# Altium footprint library STM32L051K8T6.PcbLib: 3 footprints
Each footprint in its own frame and in the unit in brackets; x right, y up, seen from the top. Pads: shape width x height; smd on the part's side, far side on the other; paste and mask are expansions set on the pad; w line width, h text height; cw(c..) or ccw(c..) is an arc to the next point about the centre after c.
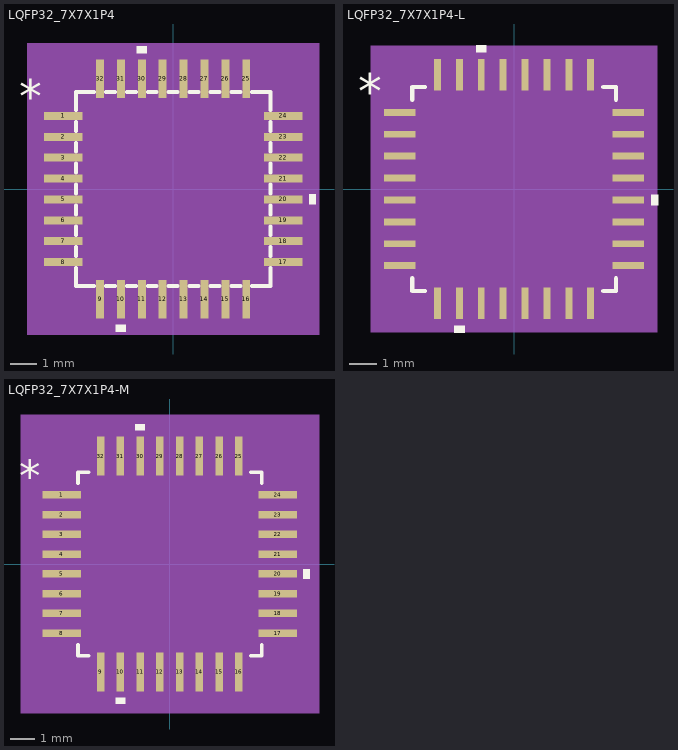
[diagram p0: the footprints below, top view; thin cyan lines are the x and y axes]

## LQFP32_7X7X1P4 [mil]
pads (32):
  rect 58x12 smd: 1(-166,110.24) 2(-166,78.74) 3(-166,47.24) 4(-166,15.75) 5(-166,-15.75) 6(-166,-47.24) 7(-166,-78.74) 8(-166,-110.24) 17(166,-110.24) 18(166,-78.74) 19(166,-47.24) 20(166,-15.75) 21(166,15.75) 22(166,47.24) 23(166,78.74) 24(166,110.24)
  rect 12x58 smd: 9(-110.24,-166) 10(-78.74,-166) 11(-47.24,-166) 12(-15.75,-166) 13(15.75,-166) 14(47.24,-166) 15(78.74,-166) 16(110.24,-166) 25(110.24,166) 26(78.74,166) 27(47.24,166) 28(15.75,166) 29(-15.75,166) 30(-47.24,166) 31(-78.74,166) 32(-110.24,166)
Top Overlay:
  region: -71.24,-205 -86.24,-205 -86.24,-215 -71.24,-215
  region: 205,-8.25 215,-8.25 215,-23.25 205,-23.25
  region: -39.74,205 -54.74,205 -54.74,215 -39.74,215
  lines w6: -146.5,-119.24 -146.5,-146.5 -119.24,-146.5 ; -146.5,-101.24 -146.5,-87.74 ; -146.5,-69.74 -146.5,-56.24 ; -146.5,-38.24 -146.5,-24.75 ; -146.5,-6.75 -146.5,6.75 ; -146.5,24.75 -146.5,38.24 ; -146.5,56.24 -146.5,69.74 ; -146.5,87.74 -146.5,101.24 ; -146.5,119.24 -146.5,146.5 -119.24,146.5 ; -101.24,-146.5 -87.74,-146.5 ; -101.24,146.5 -87.74,146.5 ; -69.74,-146.5 -56.24,-146.5 ; -69.74,146.5 -56.24,146.5 ; -38.24,-146.5 -24.75,-146.5 ; -38.24,146.5 -24.75,146.5 ; -6.75,-146.5 6.75,-146.5 ; -6.75,146.5 6.75,146.5 ; 24.75,-146.5 38.24,-146.5 ; 24.75,146.5 38.24,146.5 ; 56.24,-146.5 69.74,-146.5 ; 56.24,146.5 69.74,146.5 ; 87.74,-146.5 101.24,-146.5 ; 87.74,146.5 101.24,146.5 ; 119.24,-146.5 146.5,-146.5 146.5,-119.24 ; 119.24,146.5 146.5,146.5 146.5,119.24 ; 146.5,-101.24 146.5,-87.74 ; 146.5,-69.74 146.5,-56.24 ; 146.5,-38.24 146.5,-24.75 ; 146.5,-6.75 146.5,6.75 ; 146.5,24.75 146.5,38.24 ; 146.5,56.24 146.5,69.74 ; 146.5,87.74 146.5,101.24
  text "*" at -232.5,115.98 h50
Mechanical 5:
  region: 220,-220 -220,-220 -220,220 220,220
Mechanical 13:
  lines w1: -141.5,91.5 -91.5,141.5 ; -141.5,-141.5 141.5,-141.5 ; -141.5,-141.5 -141.5,141.5 ; -141.5,-141.5 -141.5,-141.5 ; -141.5,141.5 141.5,141.5 ; -141.5,141.5 -141.5,141.5 ; 141.5,-141.5 141.5,-141.5 ; 141.5,-141.5 141.5,141.5 ; 141.5,141.5 141.5,141.5 ; -181,-115.24 -181,-105.24 -141.5,-105.24 -141.5,-115.24 -181,-115.24 ; -181,-83.74 -181,-73.74 -141.5,-73.74 -141.5,-83.74 -181,-83.74 ; -181,-52.24 -181,-42.24 -141.5,-42.24 -141.5,-52.24 -181,-52.24 ; -181,-20.75 -181,-10.75 -141.5,-10.75 -141.5,-20.75 -181,-20.75 ; -181,10.75 -181,20.75 -141.5,20.75 -141.5,10.75 -181,10.75 ; -181,42.24 -181,52.24 -141.5,52.24 -141.5,42.24 -181,42.24 ; -181,73.74 -181,83.74 -141.5,83.74 -141.5,73.74 -181,73.74 ; -181,105.24 -181,115.24 -141.5,115.24 -141.5,105.24 -181,105.24 ; -115.24,-181 -115.24,-141.5 -105.24,-141.5 -105.24,-181 -115.24,-181 ; -115.24,141.5 -105.24,141.5 -105.24,181 -115.24,181 -115.24,141.5 ; -83.74,-181 -83.74,-141.5 -73.74,-141.5 -73.74,-181 -83.74,-181 ; -83.74,141.5 -73.74,141.5 -73.74,181 -83.74,181 -83.74,141.5 ; -52.24,-181 -52.24,-141.5 -42.24,-141.5 -42.24,-181 -52.24,-181 ; -52.24,141.5 -42.24,141.5 -42.24,181 -52.24,181 -52.24,141.5 ; -20.75,-181 -20.75,-141.5 -10.75,-141.5 -10.75,-181 -20.75,-181 ; -20.75,141.5 -10.75,141.5 -10.75,181 -20.75,181 -20.75,141.5 ; 10.75,-181 10.75,-141.5 20.75,-141.5 20.75,-181 10.75,-181 ; 10.75,141.5 20.75,141.5 20.75,181 10.75,181 10.75,141.5 ; 42.24,-181 42.24,-141.5 52.24,-141.5 52.24,-181 42.24,-181 ; 42.24,141.5 52.24,141.5 52.24,181 42.24,181 42.24,141.5 ; 73.74,-181 73.74,-141.5 83.74,-141.5 83.74,-181 73.74,-181 ; 73.74,141.5 83.74,141.5 83.74,181 73.74,181 73.74,141.5 ; 105.24,-181 105.24,-141.5 115.24,-141.5 115.24,-181 105.24,-181 ; 105.24,141.5 115.24,141.5 115.24,181 105.24,181 105.24,141.5 ; 141.5,-115.24 141.5,-105.24 181,-105.24 181,-115.24 141.5,-115.24 ; 141.5,-83.74 141.5,-73.74 181,-73.74 181,-83.74 141.5,-83.74 ; 141.5,-52.24 141.5,-42.24 181,-42.24 181,-52.24 141.5,-52.24 ; 141.5,-20.75 141.5,-10.75 181,-10.75 181,-20.75 141.5,-20.75 ; 141.5,10.75 141.5,20.75 181,20.75 181,10.75 141.5,10.75 ; 141.5,42.24 141.5,52.24 181,52.24 181,42.24 141.5,42.24 ; 141.5,73.74 141.5,83.74 181,83.74 181,73.74 141.5,73.74 ; 141.5,105.24 141.5,115.24 181,115.24 181,105.24 141.5,105.24
  text "*" at -139,100.98 h50
Mechanical 15:
  region: -130.24,-151.5 -151.5,-151.5 -151.5,-130.24 -207,-130.24 -207,130.24 -151.5,130.24 -151.5,151.5 -130.24,151.5 -130.24,207 130.24,207 130.24,151.5 151.5,151.5 151.5,130.24 207,130.24 207,-130.24 151.5,-130.24 151.5,-151.5 130.24,-151.5 130.24,-207 -130.24,-207
  lines w6: -207,-130.24 -151.5,-130.24 -151.5,-151.5 -130.24,-151.5 -130.24,-207 130.24,-207 130.24,-151.5 151.5,-151.5 151.5,-130.24 207,-130.24 207,130.24 151.5,130.24 151.5,151.5 130.24,151.5 130.24,207 -130.24,207 -130.24,151.5 -151.5,151.5 -151.5,130.24 -207,130.24 -207,-130.24
3D body "LQFP32_7X7X1P4.step": height 63.11, standoff 0, extent -180.98,-180.98 180.98,180.98

## LQFP32_7X7X1P4-L [mil]
pads (32):
  rect 45.5x10 smd paste+0 mask+0: 1(-164.25,110.24) 2(-164.25,78.74) 3(-164.25,47.24) 4(-164.25,15.75) 5(-164.25,-15.75) 6(-164.25,-47.24) 7(-164.25,-78.74) 8(-164.25,-110.24) 17(164.25,-110.24) 18(164.25,-78.74) 19(164.25,-47.24) 20(164.25,-15.75) 21(164.25,15.75) 22(164.25,47.24) 23(164.25,78.74) 24(164.25,110.24)
  rect 10x45.5 smd paste+0 mask+0: 9(-110.24,-164.25) 10(-78.74,-164.25) 11(-47.24,-164.25) 12(-15.75,-164.25) 13(15.75,-164.25) 14(47.24,-164.25) 15(78.74,-164.25) 16(110.24,-164.25) 25(110.24,164.25) 26(78.74,164.25) 27(47.24,164.25) 28(15.75,164.25) 29(-15.75,164.25) 30(-47.24,164.25) 31(-78.74,164.25) 32(-110.24,164.25)
Top Overlay:
  region: -71.24,-197 -86.24,-197 -86.24,-207 -71.24,-207
  region: 197,-8.25 207,-8.25 207,-23.25 197,-23.25
  region: -39.74,197 -54.74,197 -54.74,207 -39.74,207
  lines w6: -146.5,-128.34 -146.5,-146.5 -128.34,-146.5 ; -146.5,128.34 -146.5,146.5 -128.34,146.5 ; 128.34,-146.5 146.5,-146.5 146.5,-128.34 ; 128.34,146.5 146.5,146.5 146.5,128.34
  text "*" at -224.5,115.98 h50
Mechanical 5:
  region: 206,-206 -206,-206 -206,206 206,206
Mechanical 13:
  lines w1: -141.5,91.5 -91.5,141.5 ; -181,-115.24 -181,-105.24 -141.5,-105.24 -141.5,-115.24 -181,-115.24 ; -181,-83.74 -181,-73.74 -141.5,-73.74 -141.5,-83.74 -181,-83.74 ; -181,-52.24 -181,-42.24 -141.5,-42.24 -141.5,-52.24 -181,-52.24 ; -181,-20.75 -181,-10.75 -141.5,-10.75 -141.5,-20.75 -181,-20.75 ; -181,10.75 -181,20.75 -141.5,20.75 -141.5,10.75 -181,10.75 ; -181,42.24 -181,52.24 -141.5,52.24 -141.5,42.24 -181,42.24 ; -181,73.74 -181,83.74 -141.5,83.74 -141.5,73.74 -181,73.74 ; -181,105.24 -181,115.24 -141.5,115.24 -141.5,105.24 -181,105.24 ; -141.5,-141.5 -141.5,141.5 141.5,141.5 141.5,-141.5 -141.5,-141.5 ; -115.24,-181 -115.24,-141.5 -105.24,-141.5 -105.24,-181 -115.24,-181 ; -115.24,141.5 -105.24,141.5 -105.24,181 -115.24,181 -115.24,141.5 ; -83.74,-181 -83.74,-141.5 -73.74,-141.5 -73.74,-181 -83.74,-181 ; -83.74,141.5 -73.74,141.5 -73.74,181 -83.74,181 -83.74,141.5 ; -52.24,-181 -52.24,-141.5 -42.24,-141.5 -42.24,-181 -52.24,-181 ; -52.24,141.5 -42.24,141.5 -42.24,181 -52.24,181 -52.24,141.5 ; -20.75,-181 -20.75,-141.5 -10.75,-141.5 -10.75,-181 -20.75,-181 ; -20.75,141.5 -10.75,141.5 -10.75,181 -20.75,181 -20.75,141.5 ; 10.75,-181 10.75,-141.5 20.75,-141.5 20.75,-181 10.75,-181 ; 10.75,141.5 20.75,141.5 20.75,181 10.75,181 10.75,141.5 ; 42.24,-181 42.24,-141.5 52.24,-141.5 52.24,-181 42.24,-181 ; 42.24,141.5 52.24,141.5 52.24,181 42.24,181 42.24,141.5 ; 73.74,-181 73.74,-141.5 83.74,-141.5 83.74,-181 73.74,-181 ; 73.74,141.5 83.74,141.5 83.74,181 73.74,181 73.74,141.5 ; 105.24,-181 105.24,-141.5 115.24,-141.5 115.24,-181 105.24,-181 ; 105.24,141.5 115.24,141.5 115.24,181 105.24,181 105.24,141.5 ; 141.5,-115.24 141.5,-105.24 181,-105.24 181,-115.24 141.5,-115.24 ; 141.5,-83.74 141.5,-73.74 181,-73.74 181,-83.74 141.5,-83.74 ; 141.5,-52.24 141.5,-42.24 181,-42.24 181,-52.24 141.5,-52.24 ; 141.5,-20.75 141.5,-10.75 181,-10.75 181,-20.75 141.5,-20.75 ; 141.5,10.75 141.5,20.75 181,20.75 181,10.75 141.5,10.75 ; 141.5,42.24 141.5,52.24 181,52.24 181,42.24 141.5,42.24 ; 141.5,73.74 141.5,83.74 181,83.74 181,73.74 141.5,73.74 ; 141.5,105.24 141.5,115.24 181,115.24 181,105.24 141.5,105.24
  text "*" at -139,100.98 h50
Mechanical 15:
  region: -119.24,-145.5 -145.5,-145.5 -145.5,-119.24 -191,-119.24 -191,119.24 -145.5,119.24 -145.5,145.5 -119.24,145.5 -119.24,191 119.24,191 119.24,145.5 145.5,145.5 145.5,119.24 191,119.24 191,-119.24 145.5,-119.24 145.5,-145.5 119.24,-145.5 119.24,-191 -119.24,-191
  lines w6: -191,-119.24 -145.5,-119.24 -145.5,-145.5 -119.24,-145.5 -119.24,-191 119.24,-191 119.24,-145.5 145.5,-145.5 145.5,-119.24 191,-119.24 191,119.24 145.5,119.24 145.5,145.5 119.24,145.5 119.24,191 -119.24,191 -119.24,145.5 -145.5,145.5 -145.5,119.24 -191,119.24 -191,-119.24
3D body "LQFP32_7X7X1P4.step": height 63.11, standoff 0, extent -180.98,-180.98 180.98,180.98

## LQFP32_7X7X1P4-M [mil]
pads (32):
  rect 61.5x12 smd paste+0 mask+0: 1(-172.25,110.24) 2(-172.25,78.74) 3(-172.25,47.24) 4(-172.25,15.75) 5(-172.25,-15.75) 6(-172.25,-47.24) 7(-172.25,-78.74) 8(-172.25,-110.24) 17(172.25,-110.24) 18(172.25,-78.74) 19(172.25,-47.24) 20(172.25,-15.75) 21(172.25,15.75) 22(172.25,47.24) 23(172.25,78.74) 24(172.25,110.24)
  rect 12x61.5 smd paste+0 mask+0: 9(-110.24,-172.25) 10(-78.74,-172.25) 11(-47.24,-172.25) 12(-15.75,-172.25) 13(15.75,-172.25) 14(47.24,-172.25) 15(78.74,-172.25) 16(110.24,-172.25) 25(110.24,172.25) 26(78.74,172.25) 27(47.24,172.25) 28(15.75,172.25) 29(-15.75,172.25) 30(-47.24,172.25) 31(-78.74,172.25) 32(-110.24,172.25)
Top Overlay:
  region: -71.24,-213 -86.24,-213 -86.24,-223 -71.24,-223
  region: 213,-8.25 223,-8.25 223,-23.25 213,-23.25
  region: -39.74,213 -54.74,213 -54.74,223 -39.74,223
  lines w6: -146.5,-129.34 -146.5,-146.5 -129.34,-146.5 ; -146.5,129.34 -146.5,146.5 -129.34,146.5 ; 129.34,-146.5 146.5,-146.5 146.5,-129.34 ; 129.34,146.5 146.5,146.5 146.5,129.34
  text "*" at -240.5,115.98 h50
Mechanical 5:
  region: 238,-238 -238,-238 -238,238 238,238
Mechanical 13:
  lines w1: -141.5,91.5 -91.5,141.5 ; -181,-115.24 -181,-105.24 -141.5,-105.24 -141.5,-115.24 -181,-115.24 ; -181,-83.74 -181,-73.74 -141.5,-73.74 -141.5,-83.74 -181,-83.74 ; -181,-52.24 -181,-42.24 -141.5,-42.24 -141.5,-52.24 -181,-52.24 ; -181,-20.75 -181,-10.75 -141.5,-10.75 -141.5,-20.75 -181,-20.75 ; -181,10.75 -181,20.75 -141.5,20.75 -141.5,10.75 -181,10.75 ; -181,42.24 -181,52.24 -141.5,52.24 -141.5,42.24 -181,42.24 ; -181,73.74 -181,83.74 -141.5,83.74 -141.5,73.74 -181,73.74 ; -181,105.24 -181,115.24 -141.5,115.24 -141.5,105.24 -181,105.24 ; -141.5,-141.5 -141.5,141.5 141.5,141.5 141.5,-141.5 -141.5,-141.5 ; -115.24,-181 -115.24,-141.5 -105.24,-141.5 -105.24,-181 -115.24,-181 ; -115.24,141.5 -105.24,141.5 -105.24,181 -115.24,181 -115.24,141.5 ; -83.74,-181 -83.74,-141.5 -73.74,-141.5 -73.74,-181 -83.74,-181 ; -83.74,141.5 -73.74,141.5 -73.74,181 -83.74,181 -83.74,141.5 ; -52.24,-181 -52.24,-141.5 -42.24,-141.5 -42.24,-181 -52.24,-181 ; -52.24,141.5 -42.24,141.5 -42.24,181 -52.24,181 -52.24,141.5 ; -20.75,-181 -20.75,-141.5 -10.75,-141.5 -10.75,-181 -20.75,-181 ; -20.75,141.5 -10.75,141.5 -10.75,181 -20.75,181 -20.75,141.5 ; 10.75,-181 10.75,-141.5 20.75,-141.5 20.75,-181 10.75,-181 ; 10.75,141.5 20.75,141.5 20.75,181 10.75,181 10.75,141.5 ; 42.24,-181 42.24,-141.5 52.24,-141.5 52.24,-181 42.24,-181 ; 42.24,141.5 52.24,141.5 52.24,181 42.24,181 42.24,141.5 ; 73.74,-181 73.74,-141.5 83.74,-141.5 83.74,-181 73.74,-181 ; 73.74,141.5 83.74,141.5 83.74,181 73.74,181 73.74,141.5 ; 105.24,-181 105.24,-141.5 115.24,-141.5 115.24,-181 105.24,-181 ; 105.24,141.5 115.24,141.5 115.24,181 105.24,181 105.24,141.5 ; 141.5,-115.24 141.5,-105.24 181,-105.24 181,-115.24 141.5,-115.24 ; 141.5,-83.74 141.5,-73.74 181,-73.74 181,-83.74 141.5,-83.74 ; 141.5,-52.24 141.5,-42.24 181,-42.24 181,-52.24 141.5,-52.24 ; 141.5,-20.75 141.5,-10.75 181,-10.75 181,-20.75 141.5,-20.75 ; 141.5,10.75 141.5,20.75 181,20.75 181,10.75 141.5,10.75 ; 141.5,42.24 141.5,52.24 181,52.24 181,42.24 141.5,42.24 ; 141.5,73.74 141.5,83.74 181,83.74 181,73.74 141.5,73.74 ; 141.5,105.24 141.5,115.24 181,115.24 181,105.24 141.5,105.24
  text "*" at -139,100.98 h50
Mechanical 15:
  region: -136.24,-161.5 -161.5,-161.5 -161.5,-136.24 -223,-136.24 -223,136.24 -161.5,136.24 -161.5,161.5 -136.24,161.5 -136.24,223 136.24,223 136.24,161.5 161.5,161.5 161.5,136.24 223,136.24 223,-136.24 161.5,-136.24 161.5,-161.5 136.24,-161.5 136.24,-223 -136.24,-223
  lines w6: -223,-136.24 -161.5,-136.24 -161.5,-161.5 -136.24,-161.5 -136.24,-223 136.24,-223 136.24,-161.5 161.5,-161.5 161.5,-136.24 223,-136.24 223,136.24 161.5,136.24 161.5,161.5 136.24,161.5 136.24,223 -136.24,223 -136.24,161.5 -161.5,161.5 -161.5,136.24 -223,136.24 -223,-136.24
3D body "LQFP32_7X7X1P4.step": height 63.11, standoff 0, extent -180.98,-180.98 180.98,180.98